# EAGLE library part L293E (library L293E)
PUSH-PULL 4 CHANNEL DRIVER
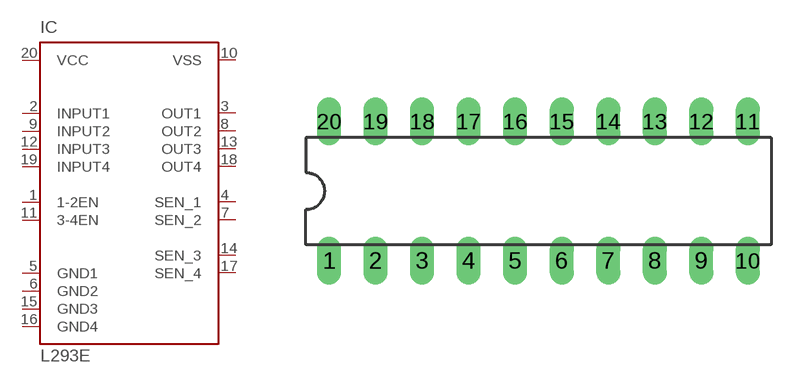
[diagram p0: symbol with the pads of DIL20; footprint DIL20]

Designator prefix IC

## L293E  [DIL20]
1  1-2EN  in
2  INPUT1  in
3  OUT1  out
4  SEN_1  in
5  GND1  pwr
6  GND2  pwr
7  SEN_2  in
8  OUT2  out
9  INPUT2  in
10  VSS  pwr
11  3-4EN  in
12  INPUT3  in
13  OUT3  out
14  SEN_3  in
15  GND3  pwr
16  GND4  pwr
17  SEN_4  in
18  OUT4  out
19  INPUT4  in
20  VCC  pwr

## Footprint DIL20 (pad centres in mm)
Dual In Line Package
drill 0.813 long: 1 -11.43,-3.81; 2 -8.89,-3.81; 3 -6.35,-3.81; 4 -3.81,-3.81; 5 -1.27,-3.81; 6 1.27,-3.81; 7 3.81,-3.81; 8 6.35,-3.81; 9 8.89,-3.81; 10 11.43,-3.81; 11 11.43,3.81; 12 8.89,3.81; 13 6.35,3.81; 14 3.81,3.81; 15 1.27,3.81; 16 -1.27,3.81; 17 -3.81,3.81; 18 -6.35,3.81; 19 -8.89,3.81; 20 -11.43,3.81